# Altium schematic symbol library RES SMD 150 OHM 0.5% 110W 0603.SchLib: 1 symbol
Pins are listed as number, name and electrical type; pins without a type are passive.

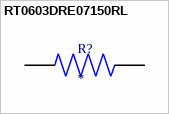
[diagram p0: symbol RT0603DRE07150RL]

## RT0603DRE07150RL
designator R?
TR0603 150R 0,5% 0,1W TK50; MP: RT0603DRE07150RL; Package: None; Price: None; Value: *; Availability: Unavailable
footprint RES SMD 150 OHM 0.5% 110W 0603 (Footprint not found)
pins: 1, 2